# EAGLE library part NC7SZ175 (library fairchild-semi)
IC FLIP FLOP UHS D-TYPE
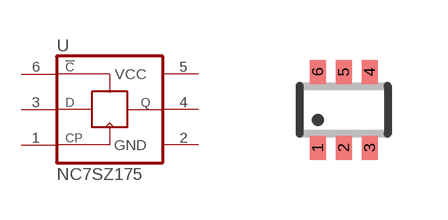
[diagram p7: symbol with the pads of SC70-6; footprint SC70-6]

Designator prefix U

## NC7SZ175P6X  [SC70-6]
1  CP  in
2  GND  pwr
3  D  in
4  Q  out
5  VCC  pwr
6  CN  in

## Footprint SC70-6 (pad centres in mm)
SC-70 Package - Fairchild
smd 0.4 x 0.6: 1 -0.65,-0.95; 2 0,-0.95; 3 0.65,-0.95; 4 0.65,0.95; 5 0,0.95; 6 -0.65,0.95